# Altium schematic symbol library FPF2110.Schlib: 1 symbol
Pins are listed as number, name and electrical type; pins without a type are passive.

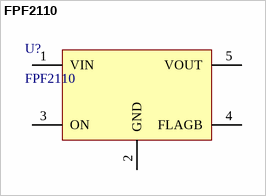
[diagram p0: symbol FPF2110]

## FPF2110
designator U?
pins: 1 VIN, 2 GND, 3 ON, 4 FLAGB, 5 VOUT